# Altium schematic symbol library DS1813-5.SchLib: 1 symbol
Pins are listed as number, name and electrical type; pins without a type are passive.

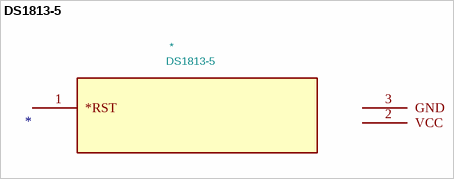
[diagram p0: symbol DS1813-5]

## DS1813-5
designator *  value DS1813-5
MANUFACTURER_PART_NUMBER: ds18135+; VENDOR: MAXIM; Footprint: 21-0248A
footprint 21-0248A
pins: 1 *RST, 2 VCC, 3 GND